# Altium schematic symbol library AST3TQ-T-25.000MHz.SchLib: 1 symbol
Pins are listed as number, name and electrical type; pins without a type are passive.

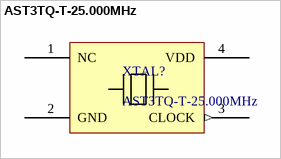
[diagram p0: symbol AST3TQ-T-25.000MHz]

## AST3TQ-T-25.000MHz
designator XTAL?
TCXO Oscillators 25MHz 3.3Volt LVCMOS 0.280 ppm -40C 85C
pins: 1 NC, 2 GND (power), 3 CLOCK (out), 4 VDD (power)